# Altium integrated library Vishay Roederstein Electrolytic Radial-Lead Capacitor.IntLib: 1241 symbols (part 19 of 20)
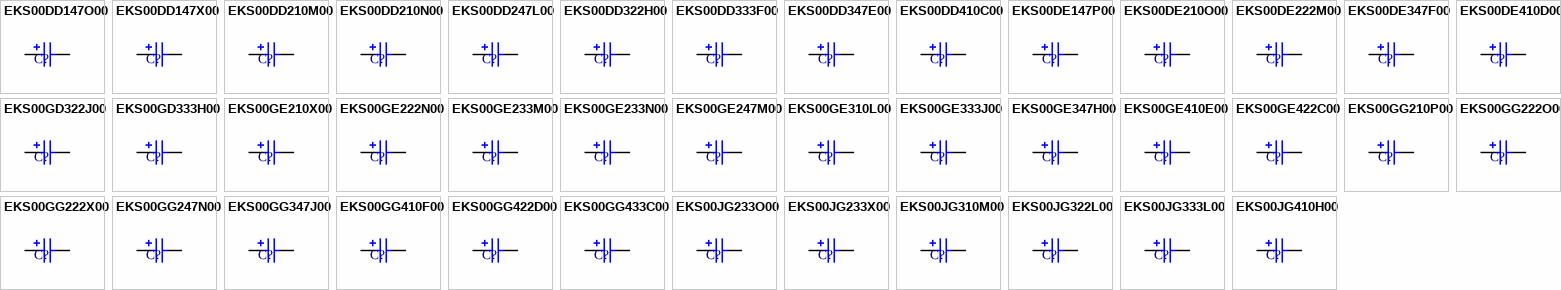
[diagram p49: symbols EKS00DD147O00 to EKS00JG410H00]

## EKS00GE347H00
designator C?
Aluminum Electrolytic Capacitor, Radial Style with Long Leads: 470uF, 50V; Note: Refer to Manufacturer's Data Sheets for other lead formations; DrillSize: Nominal, Rounded To The Nearest 0.1mm; Published: 19-Mar-2004; DatasheetDocument: 30-May-2000; PackageReference: CAPPR5-13X20; Publisher: Altium Limited; ComponentLink1Description: Manufacturer Link; ComponentLink1URL: http://www.vishay.com/; ComponentLink2Description: Datasheet; ComponentLink2URL: http://www.vishay.com/docs/25007/eks.pdf; Value: 470uF
footprint CAPPR5-13X20 (Capacitor, Electrolytic, Radial; Body 13 x 20 mm (Dia.xH typ); Pin Spacing 5 mm (typ))
simulation model CAP (Capacitor)
signal-integrity model EKS00GE347H00
pins: 1, 2
1 alternate drawing of the same symbol

## EKS00GE410E00
designator C?
Aluminum Electrolytic Capacitor, Radial Style with Long Leads: 1000uF, 25V; Note: Refer to Manufacturer's Data Sheets for other lead formations; DrillSize: Nominal, Rounded To The Nearest 0.1mm; Published: 19-Mar-2004; DatasheetDocument: 30-May-2000; PackageReference: CAPPR5-13X20; Publisher: Altium Limited; ComponentLink1Description: Manufacturer Link; ComponentLink1URL: http://www.vishay.com/; ComponentLink2Description: Datasheet; ComponentLink2URL: http://www.vishay.com/docs/25007/eks.pdf; Value: 1000uF
footprint CAPPR5-13X20 (Capacitor, Electrolytic, Radial; Body 13 x 20 mm (Dia.xH typ); Pin Spacing 5 mm (typ))
simulation model CAP (Capacitor)
signal-integrity model EKS00GE410E00
pins: 1, 2
1 alternate drawing of the same symbol

## EKS00GE422C00
designator C?
Aluminum Electrolytic Capacitor, Radial Style with Long Leads: 2200uF, 10V; Note: Refer to Manufacturer's Data Sheets for other lead formations; DrillSize: Nominal, Rounded To The Nearest 0.1mm; Published: 19-Mar-2004; DatasheetDocument: 30-May-2000; PackageReference: CAPPR5-13X20; Publisher: Altium Limited; ComponentLink1Description: Manufacturer Link; ComponentLink1URL: http://www.vishay.com/; ComponentLink2Description: Datasheet; ComponentLink2URL: http://www.vishay.com/docs/25007/eks.pdf; Value: 2200uF
footprint CAPPR5-13X20 (Capacitor, Electrolytic, Radial; Body 13 x 20 mm (Dia.xH typ); Pin Spacing 5 mm (typ))
simulation model CAP (Capacitor)
signal-integrity model EKS00GE422C00
pins: 1, 2
1 alternate drawing of the same symbol

## EKS00GG210P00
designator C?
Aluminum Electrolytic Capacitor, Radial Style with Long Leads: 10uF, 450V; Note: Refer to Manufacturer's Data Sheets for other lead formations; DrillSize: Nominal, Rounded To The Nearest 0.1mm; Published: 19-Mar-2004; DatasheetDocument: 30-May-2000; PackageReference: CAPPR5-13X25; Publisher: Altium Limited; ComponentLink1Description: Manufacturer Link; ComponentLink1URL: http://www.vishay.com/; ComponentLink2Description: Datasheet; ComponentLink2URL: http://www.vishay.com/docs/25007/eks.pdf; Value: 10uF
footprint CAPPR5-13X25 (Capacitor, Electrolytic, Radial; Body 13 x 25 mm (Dia.xH typ); Pin Spacing 5 mm (typ))
simulation model CAP (Capacitor)
signal-integrity model EKS00GG210P00
pins: 1, 2
1 alternate drawing of the same symbol

## EKS00GG222O00
designator C?
Aluminum Electrolytic Capacitor, Radial Style with Long Leads: 22uF, 350V; Note: Refer to Manufacturer's Data Sheets for other lead formations; DrillSize: Nominal, Rounded To The Nearest 0.1mm; Published: 19-Mar-2004; DatasheetDocument: 30-May-2000; PackageReference: CAPPR5-13X25; Publisher: Altium Limited; ComponentLink1Description: Manufacturer Link; ComponentLink1URL: http://www.vishay.com/; ComponentLink2Description: Datasheet; ComponentLink2URL: http://www.vishay.com/docs/25007/eks.pdf; Value: 22uF
footprint CAPPR5-13X25 (Capacitor, Electrolytic, Radial; Body 13 x 25 mm (Dia.xH typ); Pin Spacing 5 mm (typ))
simulation model CAP (Capacitor)
signal-integrity model EKS00GG222O00
pins: 1, 2
1 alternate drawing of the same symbol

## EKS00GG222X00
designator C?
Aluminum Electrolytic Capacitor, Radial Style with Long Leads: 22uF, 400V; Note: Refer to Manufacturer's Data Sheets for other lead formations; DrillSize: Nominal, Rounded To The Nearest 0.1mm; Published: 19-Mar-2004; DatasheetDocument: 30-May-2000; PackageReference: CAPPR5-13X25; Publisher: Altium Limited; ComponentLink1Description: Manufacturer Link; ComponentLink1URL: http://www.vishay.com/; ComponentLink2Description: Datasheet; ComponentLink2URL: http://www.vishay.com/docs/25007/eks.pdf; Value: 22uF
footprint CAPPR5-13X25 (Capacitor, Electrolytic, Radial; Body 13 x 25 mm (Dia.xH typ); Pin Spacing 5 mm (typ))
simulation model CAP (Capacitor)
signal-integrity model EKS00GG222X00
pins: 1, 2
1 alternate drawing of the same symbol

## EKS00GG247N00
designator C?
Aluminum Electrolytic Capacitor, Radial Style with Long Leads: 47uF, 250V; Note: Refer to Manufacturer's Data Sheets for other lead formations; DrillSize: Nominal, Rounded To The Nearest 0.1mm; Published: 19-Mar-2004; DatasheetDocument: 30-May-2000; PackageReference: CAPPR5-13X25; Publisher: Altium Limited; ComponentLink1Description: Manufacturer Link; ComponentLink1URL: http://www.vishay.com/; ComponentLink2Description: Datasheet; ComponentLink2URL: http://www.vishay.com/docs/25007/eks.pdf; Value: 47uF
footprint CAPPR5-13X25 (Capacitor, Electrolytic, Radial; Body 13 x 25 mm (Dia.xH typ); Pin Spacing 5 mm (typ))
simulation model CAP (Capacitor)
signal-integrity model EKS00GG247N00
pins: 1, 2
1 alternate drawing of the same symbol

## EKS00GG347J00
designator C?
Aluminum Electrolytic Capacitor, Radial Style with Long Leads: 470uF, 63V; Note: Refer to Manufacturer's Data Sheets for other lead formations; DrillSize: Nominal, Rounded To The Nearest 0.1mm; Published: 19-Mar-2004; DatasheetDocument: 30-May-2000; PackageReference: CAPPR5-13X25; Publisher: Altium Limited; ComponentLink1Description: Manufacturer Link; ComponentLink1URL: http://www.vishay.com/; ComponentLink2Description: Datasheet; ComponentLink2URL: http://www.vishay.com/docs/25007/eks.pdf; Value: 470uF
footprint CAPPR5-13X25 (Capacitor, Electrolytic, Radial; Body 13 x 25 mm (Dia.xH typ); Pin Spacing 5 mm (typ))
simulation model CAP (Capacitor)
signal-integrity model EKS00GG347J00
pins: 1, 2
1 alternate drawing of the same symbol

## EKS00GG410F00
designator C?
Aluminum Electrolytic Capacitor, Radial Style with Long Leads: 1000uF, 35V; Note: Refer to Manufacturer's Data Sheets for other lead formations; DrillSize: Nominal, Rounded To The Nearest 0.1mm; Published: 19-Mar-2004; DatasheetDocument: 30-May-2000; PackageReference: CAPPR5-13X25; Publisher: Altium Limited; ComponentLink1Description: Manufacturer Link; ComponentLink1URL: http://www.vishay.com/; ComponentLink2Description: Datasheet; ComponentLink2URL: http://www.vishay.com/docs/25007/eks.pdf; Value: 1000uF
footprint CAPPR5-13X25 (Capacitor, Electrolytic, Radial; Body 13 x 25 mm (Dia.xH typ); Pin Spacing 5 mm (typ))
simulation model CAP (Capacitor)
signal-integrity model EKS00GG410F00
pins: 1, 2
1 alternate drawing of the same symbol

## EKS00GG422D00
designator C?
Aluminum Electrolytic Capacitor, Radial Style with Long Leads: 2200uF, 16V; Note: Refer to Manufacturer's Data Sheets for other lead formations; DrillSize: Nominal, Rounded To The Nearest 0.1mm; Published: 19-Mar-2004; DatasheetDocument: 30-May-2000; PackageReference: CAPPR5-13X25; Publisher: Altium Limited; ComponentLink1Description: Manufacturer Link; ComponentLink1URL: http://www.vishay.com/; ComponentLink2Description: Datasheet; ComponentLink2URL: http://www.vishay.com/docs/25007/eks.pdf; Value: 2200uF
footprint CAPPR5-13X25 (Capacitor, Electrolytic, Radial; Body 13 x 25 mm (Dia.xH typ); Pin Spacing 5 mm (typ))
simulation model CAP (Capacitor)
signal-integrity model EKS00GG422D00
pins: 1, 2
1 alternate drawing of the same symbol

## EKS00GG433C00
designator C?
Aluminum Electrolytic Capacitor, Radial Style with Long Leads: 3300uF, 10V; Note: Refer to Manufacturer's Data Sheets for other lead formations; DrillSize: Nominal, Rounded To The Nearest 0.1mm; Published: 19-Mar-2004; DatasheetDocument: 30-May-2000; PackageReference: CAPPR5-13X25; Publisher: Altium Limited; ComponentLink1Description: Manufacturer Link; ComponentLink1URL: http://www.vishay.com/; ComponentLink2Description: Datasheet; ComponentLink2URL: http://www.vishay.com/docs/25007/eks.pdf; Value: 3300uF
footprint CAPPR5-13X25 (Capacitor, Electrolytic, Radial; Body 13 x 25 mm (Dia.xH typ); Pin Spacing 5 mm (typ))
simulation model CAP (Capacitor)
signal-integrity model EKS00GG433C00
pins: 1, 2
1 alternate drawing of the same symbol

## EKS00JG233O00
designator C?
Aluminum Electrolytic Capacitor, Radial Style with Long Leads: 33uF, 350V; Note: Refer to Manufacturer's Data Sheets for other lead formations; DrillSize: Nominal, Rounded To The Nearest 0.1mm; Published: 19-Mar-2004; DatasheetDocument: 30-May-2000; PackageReference: CAPPR7.5-16X25; Publisher: Altium Limited; ComponentLink1Description: Manufacturer Link; ComponentLink1URL: http://www.vishay.com/; ComponentLink2Description: Datasheet; ComponentLink2URL: http://www.vishay.com/docs/25007/eks.pdf; Value: 33uF
footprint CAPPR7.5-16X25 (Capacitor, Electrolytic, Radial; Body 16 x 25 mm (Dia.xH typ); Pin Spacing 7.5 mm (typ))
simulation model CAP (Capacitor)
signal-integrity model EKS00JG233O00
pins: 1, 2
1 alternate drawing of the same symbol

## EKS00JG233X00
designator C?
Aluminum Electrolytic Capacitor, Radial Style with Long Leads: 33uF, 400V; Note: Refer to Manufacturer's Data Sheets for other lead formations; DrillSize: Nominal, Rounded To The Nearest 0.1mm; Published: 19-Mar-2004; DatasheetDocument: 30-May-2000; PackageReference: CAPPR7.5-16X25; Publisher: Altium Limited; ComponentLink1Description: Manufacturer Link; ComponentLink1URL: http://www.vishay.com/; ComponentLink2Description: Datasheet; ComponentLink2URL: http://www.vishay.com/docs/25007/eks.pdf; Value: 33uF
footprint CAPPR7.5-16X25 (Capacitor, Electrolytic, Radial; Body 16 x 25 mm (Dia.xH typ); Pin Spacing 7.5 mm (typ))
simulation model CAP (Capacitor)
signal-integrity model EKS00JG233X00
pins: 1, 2
1 alternate drawing of the same symbol

## EKS00JG310M00
designator C?
Aluminum Electrolytic Capacitor, Radial Style with Long Leads: 100uF, 160V; Note: Refer to Manufacturer's Data Sheets for other lead formations; DrillSize: Nominal, Rounded To The Nearest 0.1mm; Published: 19-Mar-2004; DatasheetDocument: 30-May-2000; PackageReference: CAPPR7.5-16X25; Publisher: Altium Limited; ComponentLink1Description: Manufacturer Link; ComponentLink1URL: http://www.vishay.com/; ComponentLink2Description: Datasheet; ComponentLink2URL: http://www.vishay.com/docs/25007/eks.pdf; Value: 100uF
footprint CAPPR7.5-16X25 (Capacitor, Electrolytic, Radial; Body 16 x 25 mm (Dia.xH typ); Pin Spacing 7.5 mm (typ))
simulation model CAP (Capacitor)
signal-integrity model EKS00JG310M00
pins: 1, 2
1 alternate drawing of the same symbol

## EKS00JG322L00
designator C?
Aluminum Electrolytic Capacitor, Radial Style with Long Leads: 220uF, 100V; Note: Refer to Manufacturer's Data Sheets for other lead formations; DrillSize: Nominal, Rounded To The Nearest 0.1mm; Published: 19-Mar-2004; DatasheetDocument: 30-May-2000; PackageReference: CAPPR7.5-16X25; Publisher: Altium Limited; ComponentLink1Description: Manufacturer Link; ComponentLink1URL: http://www.vishay.com/; ComponentLink2Description: Datasheet; ComponentLink2URL: http://www.vishay.com/docs/25007/eks.pdf; Value: 220uF
footprint CAPPR7.5-16X25 (Capacitor, Electrolytic, Radial; Body 16 x 25 mm (Dia.xH typ); Pin Spacing 7.5 mm (typ))
simulation model CAP (Capacitor)
signal-integrity model EKS00JG322L00
pins: 1, 2
1 alternate drawing of the same symbol

## EKS00JG333L00
designator C?
Aluminum Electrolytic Capacitor, Radial Style with Long Leads: 330uF, 100V; Note: Refer to Manufacturer's Data Sheets for other lead formations; DrillSize: Nominal, Rounded To The Nearest 0.1mm; Published: 19-Mar-2004; DatasheetDocument: 30-May-2000; PackageReference: CAPPR7.5-16X25; Publisher: Altium Limited; ComponentLink1Description: Manufacturer Link; ComponentLink1URL: http://www.vishay.com/; ComponentLink2Description: Datasheet; ComponentLink2URL: http://www.vishay.com/docs/25007/eks.pdf; Value: 330uF
footprint CAPPR7.5-16X25 (Capacitor, Electrolytic, Radial; Body 16 x 25 mm (Dia.xH typ); Pin Spacing 7.5 mm (typ))
simulation model CAP (Capacitor)
signal-integrity model EKS00JG333L00
pins: 1, 2
1 alternate drawing of the same symbol

## EKS00JG410H00
designator C?
Aluminum Electrolytic Capacitor, Radial Style with Long Leads: 1000uF, 50V; Note: Refer to Manufacturer's Data Sheets for other lead formations; DrillSize: Nominal, Rounded To The Nearest 0.1mm; Published: 19-Mar-2004; DatasheetDocument: 30-May-2000; PackageReference: CAPPR7.5-16X25; Publisher: Altium Limited; ComponentLink1Description: Manufacturer Link; ComponentLink1URL: http://www.vishay.com/; ComponentLink2Description: Datasheet; ComponentLink2URL: http://www.vishay.com/docs/25007/eks.pdf; Value: 1000uF
footprint CAPPR7.5-16X25 (Capacitor, Electrolytic, Radial; Body 16 x 25 mm (Dia.xH typ); Pin Spacing 7.5 mm (typ))
simulation model CAP (Capacitor)
signal-integrity model EKS00JG410H00
pins: 1, 2
1 alternate drawing of the same symbol

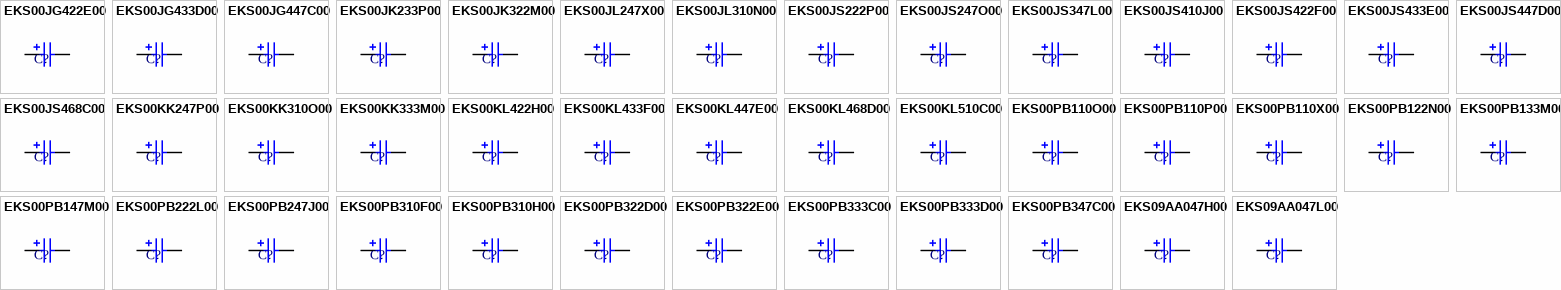
[diagram p29: symbols EKS00JG422E00 to EKS09AA047L00]

## EKS00JG422E00
designator C?
Aluminum Electrolytic Capacitor, Radial Style with Long Leads: 2200uF, 25V; Note: Refer to Manufacturer's Data Sheets for other lead formations; DrillSize: Nominal, Rounded To The Nearest 0.1mm; Published: 19-Mar-2004; DatasheetDocument: 30-May-2000; PackageReference: CAPPR7.5-16X25; Publisher: Altium Limited; ComponentLink1Description: Manufacturer Link; ComponentLink1URL: http://www.vishay.com/; ComponentLink2Description: Datasheet; ComponentLink2URL: http://www.vishay.com/docs/25007/eks.pdf; Value: 2200uF
footprint CAPPR7.5-16X25 (Capacitor, Electrolytic, Radial; Body 16 x 25 mm (Dia.xH typ); Pin Spacing 7.5 mm (typ))
simulation model CAP (Capacitor)
signal-integrity model EKS00JG422E00
pins: 1, 2
1 alternate drawing of the same symbol

## EKS00JG433D00
designator C?
Aluminum Electrolytic Capacitor, Radial Style with Long Leads: 3300uF, 16V; Note: Refer to Manufacturer's Data Sheets for other lead formations; DrillSize: Nominal, Rounded To The Nearest 0.1mm; Published: 19-Mar-2004; DatasheetDocument: 30-May-2000; PackageReference: CAPPR7.5-16X25; Publisher: Altium Limited; ComponentLink1Description: Manufacturer Link; ComponentLink1URL: http://www.vishay.com/; ComponentLink2Description: Datasheet; ComponentLink2URL: http://www.vishay.com/docs/25007/eks.pdf; Value: 3300uF
footprint CAPPR7.5-16X25 (Capacitor, Electrolytic, Radial; Body 16 x 25 mm (Dia.xH typ); Pin Spacing 7.5 mm (typ))
simulation model CAP (Capacitor)
signal-integrity model EKS00JG433D00
pins: 1, 2
1 alternate drawing of the same symbol

## EKS00JG447C00
designator C?
Aluminum Electrolytic Capacitor, Radial Style with Long Leads: 4700uF, 10V; Note: Refer to Manufacturer's Data Sheets for other lead formations; DrillSize: Nominal, Rounded To The Nearest 0.1mm; Published: 19-Mar-2004; DatasheetDocument: 30-May-2000; PackageReference: CAPPR7.5-16X25; Publisher: Altium Limited; ComponentLink1Description: Manufacturer Link; ComponentLink1URL: http://www.vishay.com/; ComponentLink2Description: Datasheet; ComponentLink2URL: http://www.vishay.com/docs/25007/eks.pdf; Value: 4700uF
footprint CAPPR7.5-16X25 (Capacitor, Electrolytic, Radial; Body 16 x 25 mm (Dia.xH typ); Pin Spacing 7.5 mm (typ))
simulation model CAP (Capacitor)
signal-integrity model EKS00JG447C00
pins: 1, 2
1 alternate drawing of the same symbol

## EKS00JK233P00
designator C?
Aluminum Electrolytic Capacitor, Radial Style with Long Leads: 33uF, 450V; Note: Refer to Manufacturer's Data Sheets for other lead formations; DrillSize: Nominal, Rounded To The Nearest 0.1mm; Published: 19-Mar-2004; DatasheetDocument: 30-May-2000; PackageReference: CAPPR7.5-16X40; Publisher: Altium Limited; ComponentLink1Description: Manufacturer Link; ComponentLink1URL: http://www.vishay.com/; ComponentLink2Description: Datasheet; ComponentLink2URL: http://www.vishay.com/docs/25007/eks.pdf; Value: 33uF
footprint CAPPR7.5-16X40 (Capacitor, Electrolytic, Radial; Body 16 x 40 mm (Dia.xH typ); Pin Spacing 7.5 mm (typ))
simulation model CAP (Capacitor)
signal-integrity model EKS00JK233P00
pins: 1, 2
1 alternate drawing of the same symbol

## EKS00JK322M00
designator C?
Aluminum Electrolytic Capacitor, Radial Style with Long Leads: 220uF, 160V; Note: Refer to Manufacturer's Data Sheets for other lead formations; DrillSize: Nominal, Rounded To The Nearest 0.1mm; Published: 19-Mar-2004; DatasheetDocument: 30-May-2000; PackageReference: CAPPR7.5-16X40; Publisher: Altium Limited; ComponentLink1Description: Manufacturer Link; ComponentLink1URL: http://www.vishay.com/; ComponentLink2Description: Datasheet; ComponentLink2URL: http://www.vishay.com/docs/25007/eks.pdf; Value: 220uF
footprint CAPPR7.5-16X40 (Capacitor, Electrolytic, Radial; Body 16 x 40 mm (Dia.xH typ); Pin Spacing 7.5 mm (typ))
simulation model CAP (Capacitor)
signal-integrity model EKS00JK322M00
pins: 1, 2
1 alternate drawing of the same symbol

## EKS00JL247X00
designator C?
Aluminum Electrolytic Capacitor, Radial Style with Long Leads: 47uF, 400V; Note: Refer to Manufacturer's Data Sheets for other lead formations; DrillSize: Nominal, Rounded To The Nearest 0.1mm; Published: 19-Mar-2004; DatasheetDocument: 30-May-2000; PackageReference: CAPPR7.5-16X35.5; Publisher: Altium Limited; ComponentLink1Description: Manufacturer Link; ComponentLink1URL: http://www.vishay.com/; ComponentLink2Description: Datasheet; ComponentLink2URL: http://www.vishay.com/docs/25007/eks.pdf; Value: 47uF
footprint CAPPR7.5-16X35.5 (Capacitor, Electrolytic, Radial; Body 16 x 35.5 mm (Dia.xH typ); Pin Spacing 7.5 mm (typ))
simulation model CAP (Capacitor)
signal-integrity model EKS00JL247X00
pins: 1, 2
1 alternate drawing of the same symbol

## EKS00JL310N00
designator C?
Aluminum Electrolytic Capacitor, Radial Style with Long Leads: 100uF, 250V; Note: Refer to Manufacturer's Data Sheets for other lead formations; DrillSize: Nominal, Rounded To The Nearest 0.1mm; Published: 19-Mar-2004; DatasheetDocument: 30-May-2000; PackageReference: CAPPR7.5-16X35.5; Publisher: Altium Limited; ComponentLink1Description: Manufacturer Link; ComponentLink1URL: http://www.vishay.com/; ComponentLink2Description: Datasheet; ComponentLink2URL: http://www.vishay.com/docs/25007/eks.pdf; Value: 100uF
footprint CAPPR7.5-16X35.5 (Capacitor, Electrolytic, Radial; Body 16 x 35.5 mm (Dia.xH typ); Pin Spacing 7.5 mm (typ))
simulation model CAP (Capacitor)
signal-integrity model EKS00JL310N00
pins: 1, 2
1 alternate drawing of the same symbol

## EKS00JS222P00
designator C?
Aluminum Electrolytic Capacitor, Radial Style with Long Leads: 22uF, 450V; Note: Refer to Manufacturer's Data Sheets for other lead formations; DrillSize: Nominal, Rounded To The Nearest 0.1mm; Published: 19-Mar-2004; DatasheetDocument: 30-May-2000; PackageReference: CAPPR7.5-16X31.5; Publisher: Altium Limited; ComponentLink1Description: Manufacturer Link; ComponentLink1URL: http://www.vishay.com/; ComponentLink2Description: Datasheet; ComponentLink2URL: http://www.vishay.com/docs/25007/eks.pdf; Value: 22uF
footprint CAPPR7.5-16X31.5 (Capacitor, Electrolytic, Radial; Body 16 x 31.5 mm (Dia.xH typ); Pin Spacing 7.5 mm (typ))
simulation model CAP (Capacitor)
signal-integrity model EKS00JS222P00
pins: 1, 2
1 alternate drawing of the same symbol

## EKS00JS247O00
designator C?
Aluminum Electrolytic Capacitor, Radial Style with Long Leads: 47uF, 350V; Note: Refer to Manufacturer's Data Sheets for other lead formations; DrillSize: Nominal, Rounded To The Nearest 0.1mm; Published: 19-Mar-2004; DatasheetDocument: 30-May-2000; PackageReference: CAPPR7.5-16X31.5; Publisher: Altium Limited; ComponentLink1Description: Manufacturer Link; ComponentLink1URL: http://www.vishay.com/; ComponentLink2Description: Datasheet; ComponentLink2URL: http://www.vishay.com/docs/25007/eks.pdf; Value: 47uF
footprint CAPPR7.5-16X31.5 (Capacitor, Electrolytic, Radial; Body 16 x 31.5 mm (Dia.xH typ); Pin Spacing 7.5 mm (typ))
simulation model CAP (Capacitor)
signal-integrity model EKS00JS247O00
pins: 1, 2
1 alternate drawing of the same symbol

## EKS00JS347L00
designator C?
Aluminum Electrolytic Capacitor, Radial Style with Long Leads: 470uF, 100V; Note: Refer to Manufacturer's Data Sheets for other lead formations; DrillSize: Nominal, Rounded To The Nearest 0.1mm; Published: 19-Mar-2004; DatasheetDocument: 30-May-2000; PackageReference: CAPPR7.5-16X31.5; Publisher: Altium Limited; ComponentLink1Description: Manufacturer Link; ComponentLink1URL: http://www.vishay.com/; ComponentLink2Description: Datasheet; ComponentLink2URL: http://www.vishay.com/docs/25007/eks.pdf; Value: 470uF
footprint CAPPR7.5-16X31.5 (Capacitor, Electrolytic, Radial; Body 16 x 31.5 mm (Dia.xH typ); Pin Spacing 7.5 mm (typ))
simulation model CAP (Capacitor)
signal-integrity model EKS00JS347L00
pins: 1, 2
1 alternate drawing of the same symbol

## EKS00JS410J00
designator C?
Aluminum Electrolytic Capacitor, Radial Style with Long Leads: 1000uF, 63V; Note: Refer to Manufacturer's Data Sheets for other lead formations; DrillSize: Nominal, Rounded To The Nearest 0.1mm; Published: 19-Mar-2004; DatasheetDocument: 30-May-2000; PackageReference: CAPPR7.5-16X31.5; Publisher: Altium Limited; ComponentLink1Description: Manufacturer Link; ComponentLink1URL: http://www.vishay.com/; ComponentLink2Description: Datasheet; ComponentLink2URL: http://www.vishay.com/docs/25007/eks.pdf; Value: 1000uF
footprint CAPPR7.5-16X31.5 (Capacitor, Electrolytic, Radial; Body 16 x 31.5 mm (Dia.xH typ); Pin Spacing 7.5 mm (typ))
simulation model CAP (Capacitor)
signal-integrity model EKS00JS410J00
pins: 1, 2
1 alternate drawing of the same symbol

## EKS00JS422F00
designator C?
Aluminum Electrolytic Capacitor, Radial Style with Long Leads: 2200uF, 35V; Note: Refer to Manufacturer's Data Sheets for other lead formations; DrillSize: Nominal, Rounded To The Nearest 0.1mm; Published: 19-Mar-2004; DatasheetDocument: 30-May-2000; PackageReference: CAPPR7.5-16X31.5; Publisher: Altium Limited; ComponentLink1Description: Manufacturer Link; ComponentLink1URL: http://www.vishay.com/; ComponentLink2Description: Datasheet; ComponentLink2URL: http://www.vishay.com/docs/25007/eks.pdf; Value: 2200uF
footprint CAPPR7.5-16X31.5 (Capacitor, Electrolytic, Radial; Body 16 x 31.5 mm (Dia.xH typ); Pin Spacing 7.5 mm (typ))
simulation model CAP (Capacitor)
signal-integrity model EKS00JS422F00
pins: 1, 2
1 alternate drawing of the same symbol

## EKS00JS433E00
designator C?
Aluminum Electrolytic Capacitor, Radial Style with Long Leads: 3300uF, 25V; Note: Refer to Manufacturer's Data Sheets for other lead formations; DrillSize: Nominal, Rounded To The Nearest 0.1mm; Published: 19-Mar-2004; DatasheetDocument: 30-May-2000; PackageReference: CAPPR7.5-16X31.5; Publisher: Altium Limited; ComponentLink1Description: Manufacturer Link; ComponentLink1URL: http://www.vishay.com/; ComponentLink2Description: Datasheet; ComponentLink2URL: http://www.vishay.com/docs/25007/eks.pdf; Value: 3300uF
footprint CAPPR7.5-16X31.5 (Capacitor, Electrolytic, Radial; Body 16 x 31.5 mm (Dia.xH typ); Pin Spacing 7.5 mm (typ))
simulation model CAP (Capacitor)
signal-integrity model EKS00JS433E00
pins: 1, 2
1 alternate drawing of the same symbol

## EKS00JS447D00
designator C?
Aluminum Electrolytic Capacitor, Radial Style with Long Leads: 4700uF, 16V; Note: Refer to Manufacturer's Data Sheets for other lead formations; DrillSize: Nominal, Rounded To The Nearest 0.1mm; Published: 19-Mar-2004; DatasheetDocument: 30-May-2000; PackageReference: CAPPR7.5-16X31.5; Publisher: Altium Limited; ComponentLink1Description: Manufacturer Link; ComponentLink1URL: http://www.vishay.com/; ComponentLink2Description: Datasheet; ComponentLink2URL: http://www.vishay.com/docs/25007/eks.pdf; Value: 4700uF
footprint CAPPR7.5-16X31.5 (Capacitor, Electrolytic, Radial; Body 16 x 31.5 mm (Dia.xH typ); Pin Spacing 7.5 mm (typ))
simulation model CAP (Capacitor)
signal-integrity model EKS00JS447D00
pins: 1, 2
1 alternate drawing of the same symbol

## EKS00JS468C00
designator C?
Aluminum Electrolytic Capacitor, Radial Style with Long Leads: 6800uF, 10V; Note: Refer to Manufacturer's Data Sheets for other lead formations; DrillSize: Nominal, Rounded To The Nearest 0.1mm; Published: 19-Mar-2004; DatasheetDocument: 30-May-2000; PackageReference: CAPPR7.5-16X31.5; Publisher: Altium Limited; ComponentLink1Description: Manufacturer Link; ComponentLink1URL: http://www.vishay.com/; ComponentLink2Description: Datasheet; ComponentLink2URL: http://www.vishay.com/docs/25007/eks.pdf; Value: 6800uF
footprint CAPPR7.5-16X31.5 (Capacitor, Electrolytic, Radial; Body 16 x 31.5 mm (Dia.xH typ); Pin Spacing 7.5 mm (typ))
simulation model CAP (Capacitor)
signal-integrity model EKS00JS468C00
pins: 1, 2
1 alternate drawing of the same symbol

## EKS00KK247P00
designator C?
Aluminum Electrolytic Capacitor, Radial Style with Long Leads: 47uF, 450V; Note: Refer to Manufacturer's Data Sheets for other lead formations; DrillSize: Nominal, Rounded To The Nearest 0.1mm; Published: 19-Mar-2004; DatasheetDocument: 30-May-2000; PackageReference: CAPPR7.5-18X40; Publisher: Altium Limited; ComponentLink1Description: Manufacturer Link; ComponentLink1URL: http://www.vishay.com/; ComponentLink2Description: Datasheet; ComponentLink2URL: http://www.vishay.com/docs/25007/eks.pdf; Value: 47uF
footprint CAPPR7.5-18X40 (Capacitor, Electrolytic, Radial; Body 18 x 40 mm (Dia.xH typ); Pin Spacing 7.5 mm (typ))
simulation model CAP (Capacitor)
signal-integrity model EKS00KK247P00
pins: 1, 2
1 alternate drawing of the same symbol

## EKS00KK310O00
designator C?
Aluminum Electrolytic Capacitor, Radial Style with Long Leads: 100uF, 350V; Note: Refer to Manufacturer's Data Sheets for other lead formations; DrillSize: Nominal, Rounded To The Nearest 0.1mm; Published: 19-Mar-2004; DatasheetDocument: 30-May-2000; PackageReference: CAPPR7.5-18X40; Publisher: Altium Limited; ComponentLink1Description: Manufacturer Link; ComponentLink1URL: http://www.vishay.com/; ComponentLink2Description: Datasheet; ComponentLink2URL: http://www.vishay.com/docs/25007/eks.pdf; Value: 100uF
footprint CAPPR7.5-18X40 (Capacitor, Electrolytic, Radial; Body 18 x 40 mm (Dia.xH typ); Pin Spacing 7.5 mm (typ))
simulation model CAP (Capacitor)
signal-integrity model EKS00KK310O00
pins: 1, 2
1 alternate drawing of the same symbol

## EKS00KK333M00
designator C?
Aluminum Electrolytic Capacitor, Radial Style with Long Leads: 330uF, 160V; Note: Refer to Manufacturer's Data Sheets for other lead formations; DrillSize: Nominal, Rounded To The Nearest 0.1mm; Published: 19-Mar-2004; DatasheetDocument: 30-May-2000; PackageReference: CAPPR7.5-18X40; Publisher: Altium Limited; ComponentLink1Description: Manufacturer Link; ComponentLink1URL: http://www.vishay.com/; ComponentLink2Description: Datasheet; ComponentLink2URL: http://www.vishay.com/docs/25007/eks.pdf; Value: 330uF
footprint CAPPR7.5-18X40 (Capacitor, Electrolytic, Radial; Body 18 x 40 mm (Dia.xH typ); Pin Spacing 7.5 mm (typ))
simulation model CAP (Capacitor)
signal-integrity model EKS00KK333M00
pins: 1, 2
1 alternate drawing of the same symbol

## EKS00KL422H00
designator C?
Aluminum Electrolytic Capacitor, Radial Style with Long Leads: 2200uF, 50V; Note: Refer to Manufacturer's Data Sheets for other lead formations; DrillSize: Nominal, Rounded To The Nearest 0.1mm; Published: 19-Mar-2004; DatasheetDocument: 30-May-2000; PackageReference: CAPPR7.5-18X35.5; Publisher: Altium Limited; ComponentLink1Description: Manufacturer Link; ComponentLink1URL: http://www.vishay.com/; ComponentLink2Description: Datasheet; ComponentLink2URL: http://www.vishay.com/docs/25007/eks.pdf; Value: 2200uF
footprint CAPPR7.5-18X35.5 (Capacitor, Electrolytic, Radial; Body 18 x 35.5 mm (Dia.xH typ); Pin Spacing 7.5 mm (typ))
simulation model CAP (Capacitor)
signal-integrity model EKS00KL422H00
pins: 1, 2
1 alternate drawing of the same symbol

## EKS00KL433F00
designator C?
Aluminum Electrolytic Capacitor, Radial Style with Long Leads: 3300uF, 35V; Note: Refer to Manufacturer's Data Sheets for other lead formations; DrillSize: Nominal, Rounded To The Nearest 0.1mm; Published: 19-Mar-2004; DatasheetDocument: 30-May-2000; PackageReference: CAPPR7.5-18X35.5; Publisher: Altium Limited; ComponentLink1Description: Manufacturer Link; ComponentLink1URL: http://www.vishay.com/; ComponentLink2Description: Datasheet; ComponentLink2URL: http://www.vishay.com/docs/25007/eks.pdf; Value: 3300uF
footprint CAPPR7.5-18X35.5 (Capacitor, Electrolytic, Radial; Body 18 x 35.5 mm (Dia.xH typ); Pin Spacing 7.5 mm (typ))
simulation model CAP (Capacitor)
signal-integrity model EKS00KL433F00
pins: 1, 2
1 alternate drawing of the same symbol

## EKS00KL447E00
designator C?
Aluminum Electrolytic Capacitor, Radial Style with Long Leads: 4700uF, 25V; Note: Refer to Manufacturer's Data Sheets for other lead formations; DrillSize: Nominal, Rounded To The Nearest 0.1mm; Published: 19-Mar-2004; DatasheetDocument: 30-May-2000; PackageReference: CAPPR7.5-18X35.5; Publisher: Altium Limited; ComponentLink1Description: Manufacturer Link; ComponentLink1URL: http://www.vishay.com/; ComponentLink2Description: Datasheet; ComponentLink2URL: http://www.vishay.com/docs/25007/eks.pdf; Value: 4700uF
footprint CAPPR7.5-18X35.5 (Capacitor, Electrolytic, Radial; Body 18 x 35.5 mm (Dia.xH typ); Pin Spacing 7.5 mm (typ))
simulation model CAP (Capacitor)
signal-integrity model EKS00KL447E00
pins: 1, 2
1 alternate drawing of the same symbol

## EKS00KL468D00
designator C?
Aluminum Electrolytic Capacitor, Radial Style with Long Leads: 6800uF, 16V; Note: Refer to Manufacturer's Data Sheets for other lead formations; DrillSize: Nominal, Rounded To The Nearest 0.1mm; Published: 19-Mar-2004; DatasheetDocument: 30-May-2000; PackageReference: CAPPR7.5-16X40; Publisher: Altium Limited; ComponentLink1Description: Manufacturer Link; ComponentLink1URL: http://www.vishay.com/; ComponentLink2Description: Datasheet; ComponentLink2URL: http://www.vishay.com/docs/25007/eks.pdf; Value: 6800uF
footprint CAPPR7.5-16X40 (Capacitor, Electrolytic, Radial; Body 16 x 40 mm (Dia.xH typ); Pin Spacing 7.5 mm (typ))
simulation model CAP (Capacitor)
signal-integrity model EKS00KL468D00
pins: 1, 2
1 alternate drawing of the same symbol

## EKS00KL510C00
designator C?
Aluminum Electrolytic Capacitor, Radial Style with Long Leads: 10000uF, 10V; Note: Refer to Manufacturer's Data Sheets for other lead formations; DrillSize: Nominal, Rounded To The Nearest 0.1mm; Published: 19-Mar-2004; DatasheetDocument: 30-May-2000; PackageReference: CAPPR7.5-18X35.5; Publisher: Altium Limited; ComponentLink1Description: Manufacturer Link; ComponentLink1URL: http://www.vishay.com/; ComponentLink2Description: Datasheet; ComponentLink2URL: http://www.vishay.com/docs/25007/eks.pdf; Value: 10000uF
footprint CAPPR7.5-18X35.5 (Capacitor, Electrolytic, Radial; Body 18 x 35.5 mm (Dia.xH typ); Pin Spacing 7.5 mm (typ))
simulation model CAP (Capacitor)
signal-integrity model EKS00KL510C00
pins: 1, 2
1 alternate drawing of the same symbol

## EKS00PB110O00
designator C?
Aluminum Electrolytic Capacitor, Radial Style with Long Leads: 1uF, 350V; Note: Refer to Manufacturer's Data Sheets for other lead formations; DrillSize: Nominal, Rounded To The Nearest 0.1mm; Published: 19-Mar-2004; DatasheetDocument: 30-May-2000; PackageReference: CAPPR3.5-8X11.5; Publisher: Altium Limited; ComponentLink1Description: Manufacturer Link; ComponentLink1URL: http://www.vishay.com/; ComponentLink2Description: Datasheet; ComponentLink2URL: http://www.vishay.com/docs/25007/eks.pdf; Value: 1uF
footprint CAPPR3.5-8X11.5 (Capacitor, Electrolytic, Radial; Body 8 x 11.5 mm (Dia.xH typ); Pin Spacing 3.5 mm (typ))
simulation model CAP (Capacitor)
signal-integrity model EKS00PB110O00
pins: 1, 2
1 alternate drawing of the same symbol

## EKS00PB110P00
designator C?
Aluminum Electrolytic Capacitor, Radial Style with Long Leads: 1uF, 450V; Note: Refer to Manufacturer's Data Sheets for other lead formations; DrillSize: Nominal, Rounded To The Nearest 0.1mm; Published: 19-Mar-2004; DatasheetDocument: 30-May-2000; PackageReference: CAPPR3.5-8X11.5; Publisher: Altium Limited; ComponentLink1Description: Manufacturer Link; ComponentLink1URL: http://www.vishay.com/; ComponentLink2Description: Datasheet; ComponentLink2URL: http://www.vishay.com/docs/25007/eks.pdf; Value: 1uF
footprint CAPPR3.5-8X11.5 (Capacitor, Electrolytic, Radial; Body 8 x 11.5 mm (Dia.xH typ); Pin Spacing 3.5 mm (typ))
simulation model CAP (Capacitor)
signal-integrity model EKS00PB110P00
pins: 1, 2
1 alternate drawing of the same symbol

## EKS00PB110X00
designator C?
Aluminum Electrolytic Capacitor, Radial Style with Long Leads: 1uF, 400V; Note: Refer to Manufacturer's Data Sheets for other lead formations; DrillSize: Nominal, Rounded To The Nearest 0.1mm; Published: 19-Mar-2004; DatasheetDocument: 30-May-2000; PackageReference: CAPPR3.5-8X11.5; Publisher: Altium Limited; ComponentLink1Description: Manufacturer Link; ComponentLink1URL: http://www.vishay.com/; ComponentLink2Description: Datasheet; ComponentLink2URL: http://www.vishay.com/docs/25007/eks.pdf; Value: 1uF
footprint CAPPR3.5-8X11.5 (Capacitor, Electrolytic, Radial; Body 8 x 11.5 mm (Dia.xH typ); Pin Spacing 3.5 mm (typ))
simulation model CAP (Capacitor)
signal-integrity model EKS00PB110X00
pins: 1, 2
1 alternate drawing of the same symbol

## EKS00PB122N00
designator C?
Aluminum Electrolytic Capacitor, Radial Style with Long Leads: 2.2uF, 250V; Note: Refer to Manufacturer's Data Sheets for other lead formations; DrillSize: Nominal, Rounded To The Nearest 0.1mm; Published: 19-Mar-2004; DatasheetDocument: 30-May-2000; PackageReference: CAPPR3.5-8X11.5; Publisher: Altium Limited; ComponentLink1Description: Manufacturer Link; ComponentLink1URL: http://www.vishay.com/; ComponentLink2Description: Datasheet; ComponentLink2URL: http://www.vishay.com/docs/25007/eks.pdf; Value: 2.2uF
footprint CAPPR3.5-8X11.5 (Capacitor, Electrolytic, Radial; Body 8 x 11.5 mm (Dia.xH typ); Pin Spacing 3.5 mm (typ))
simulation model CAP (Capacitor)
signal-integrity model EKS00PB122N00
pins: 1, 2
1 alternate drawing of the same symbol

## EKS00PB133M00
designator C?
Aluminum Electrolytic Capacitor, Radial Style with Long Leads: 3.3uF, 160V; Note: Refer to Manufacturer's Data Sheets for other lead formations; DrillSize: Nominal, Rounded To The Nearest 0.1mm; Published: 19-Mar-2004; DatasheetDocument: 30-May-2000; PackageReference: CAPPR3.5-8X11.5; Publisher: Altium Limited; ComponentLink1Description: Manufacturer Link; ComponentLink1URL: http://www.vishay.com/; ComponentLink2Description: Datasheet; ComponentLink2URL: http://www.vishay.com/docs/25007/eks.pdf; Value: 3.3uF
footprint CAPPR3.5-8X11.5 (Capacitor, Electrolytic, Radial; Body 8 x 11.5 mm (Dia.xH typ); Pin Spacing 3.5 mm (typ))
simulation model CAP (Capacitor)
signal-integrity model EKS00PB133M00
pins: 1, 2
1 alternate drawing of the same symbol

## EKS00PB147M00
designator C?
Aluminum Electrolytic Capacitor, Radial Style with Long Leads: 4.7uF, 160V; Note: Refer to Manufacturer's Data Sheets for other lead formations; DrillSize: Nominal, Rounded To The Nearest 0.1mm; Published: 19-Mar-2004; DatasheetDocument: 30-May-2000; PackageReference: CAPPR3.5-8X11.5; Publisher: Altium Limited; ComponentLink1Description: Manufacturer Link; ComponentLink1URL: http://www.vishay.com/; ComponentLink2Description: Datasheet; ComponentLink2URL: http://www.vishay.com/docs/25007/eks.pdf; Value: 4.7uF
footprint CAPPR3.5-8X11.5 (Capacitor, Electrolytic, Radial; Body 8 x 11.5 mm (Dia.xH typ); Pin Spacing 3.5 mm (typ))
simulation model CAP (Capacitor)
signal-integrity model EKS00PB147M00
pins: 1, 2
1 alternate drawing of the same symbol

## EKS00PB222L00
designator C?
Aluminum Electrolytic Capacitor, Radial Style with Long Leads: 22uF, 100V; Note: Refer to Manufacturer's Data Sheets for other lead formations; DrillSize: Nominal, Rounded To The Nearest 0.1mm; Published: 19-Mar-2004; DatasheetDocument: 30-May-2000; PackageReference: CAPPR3.5-8X11.5; Publisher: Altium Limited; ComponentLink1Description: Manufacturer Link; ComponentLink1URL: http://www.vishay.com/; ComponentLink2Description: Datasheet; ComponentLink2URL: http://www.vishay.com/docs/25007/eks.pdf; Value: 22uF
footprint CAPPR3.5-8X11.5 (Capacitor, Electrolytic, Radial; Body 8 x 11.5 mm (Dia.xH typ); Pin Spacing 3.5 mm (typ))
simulation model CAP (Capacitor)
signal-integrity model EKS00PB222L00
pins: 1, 2
1 alternate drawing of the same symbol

## EKS00PB247J00
designator C?
Aluminum Electrolytic Capacitor, Radial Style with Long Leads: 47uF, 63V; Note: Refer to Manufacturer's Data Sheets for other lead formations; DrillSize: Nominal, Rounded To The Nearest 0.1mm; Published: 19-Mar-2004; DatasheetDocument: 30-May-2000; PackageReference: CAPPR3.5-8X11.5; Publisher: Altium Limited; ComponentLink1Description: Manufacturer Link; ComponentLink1URL: http://www.vishay.com/; ComponentLink2Description: Datasheet; ComponentLink2URL: http://www.vishay.com/docs/25007/eks.pdf; Value: 47uF
footprint CAPPR3.5-8X11.5 (Capacitor, Electrolytic, Radial; Body 8 x 11.5 mm (Dia.xH typ); Pin Spacing 3.5 mm (typ))
simulation model CAP (Capacitor)
signal-integrity model EKS00PB247J00
pins: 1, 2
1 alternate drawing of the same symbol

## EKS00PB310F00
designator C?
Aluminum Electrolytic Capacitor, Radial Style with Long Leads: 100uF, 35V; Note: Refer to Manufacturer's Data Sheets for other lead formations; DrillSize: Nominal, Rounded To The Nearest 0.1mm; Published: 19-Mar-2004; DatasheetDocument: 30-May-2000; PackageReference: CAPPR3.5-8X11.5; Publisher: Altium Limited; ComponentLink1Description: Manufacturer Link; ComponentLink1URL: http://www.vishay.com/; ComponentLink2Description: Datasheet; ComponentLink2URL: http://www.vishay.com/docs/25007/eks.pdf; Value: 100uF
footprint CAPPR3.5-8X11.5 (Capacitor, Electrolytic, Radial; Body 8 x 11.5 mm (Dia.xH typ); Pin Spacing 3.5 mm (typ))
simulation model CAP (Capacitor)
signal-integrity model EKS00PB310F00
pins: 1, 2
1 alternate drawing of the same symbol

## EKS00PB310H00
designator C?
Aluminum Electrolytic Capacitor, Radial Style with Long Leads: 100uF, 50V; Note: Refer to Manufacturer's Data Sheets for other lead formations; DrillSize: Nominal, Rounded To The Nearest 0.1mm; Published: 19-Mar-2004; DatasheetDocument: 30-May-2000; PackageReference: CAPPR3.5-8X11.5; Publisher: Altium Limited; ComponentLink1Description: Manufacturer Link; ComponentLink1URL: http://www.vishay.com/; ComponentLink2Description: Datasheet; ComponentLink2URL: http://www.vishay.com/docs/25007/eks.pdf; Value: 100uF
footprint CAPPR3.5-8X11.5 (Capacitor, Electrolytic, Radial; Body 8 x 11.5 mm (Dia.xH typ); Pin Spacing 3.5 mm (typ))
simulation model CAP (Capacitor)
signal-integrity model EKS00PB310H00
pins: 1, 2
1 alternate drawing of the same symbol

## EKS00PB322D00
designator C?
Aluminum Electrolytic Capacitor, Radial Style with Long Leads: 220uF, 16V; Note: Refer to Manufacturer's Data Sheets for other lead formations; DrillSize: Nominal, Rounded To The Nearest 0.1mm; Published: 19-Mar-2004; DatasheetDocument: 30-May-2000; PackageReference: CAPPR3.5-8X11.5; Publisher: Altium Limited; ComponentLink1Description: Manufacturer Link; ComponentLink1URL: http://www.vishay.com/; ComponentLink2Description: Datasheet; ComponentLink2URL: http://www.vishay.com/docs/25007/eks.pdf; Value: 220uF
footprint CAPPR3.5-8X11.5 (Capacitor, Electrolytic, Radial; Body 8 x 11.5 mm (Dia.xH typ); Pin Spacing 3.5 mm (typ))
simulation model CAP (Capacitor)
signal-integrity model EKS00PB322D00
pins: 1, 2
1 alternate drawing of the same symbol

## EKS00PB322E00
designator C?
Aluminum Electrolytic Capacitor, Radial Style with Long Leads: 220uF, 25V; Note: Refer to Manufacturer's Data Sheets for other lead formations; DrillSize: Nominal, Rounded To The Nearest 0.1mm; Published: 19-Mar-2004; DatasheetDocument: 30-May-2000; PackageReference: CAPPR3.5-8X11.5; Publisher: Altium Limited; ComponentLink1Description: Manufacturer Link; ComponentLink1URL: http://www.vishay.com/; ComponentLink2Description: Datasheet; ComponentLink2URL: http://www.vishay.com/docs/25007/eks.pdf; Value: 220uF
footprint CAPPR3.5-8X11.5 (Capacitor, Electrolytic, Radial; Body 8 x 11.5 mm (Dia.xH typ); Pin Spacing 3.5 mm (typ))
simulation model CAP (Capacitor)
signal-integrity model EKS00PB322E00
pins: 1, 2
1 alternate drawing of the same symbol

## EKS00PB333C00
designator C?
Aluminum Electrolytic Capacitor, Radial Style with Long Leads: 330uF, 10V; Note: Refer to Manufacturer's Data Sheets for other lead formations; DrillSize: Nominal, Rounded To The Nearest 0.1mm; Published: 19-Mar-2004; DatasheetDocument: 30-May-2000; PackageReference: CAPPR3.5-8X11.5; Publisher: Altium Limited; ComponentLink1Description: Manufacturer Link; ComponentLink1URL: http://www.vishay.com/; ComponentLink2Description: Datasheet; ComponentLink2URL: http://www.vishay.com/docs/25007/eks.pdf; Value: 330uF
footprint CAPPR3.5-8X11.5 (Capacitor, Electrolytic, Radial; Body 8 x 11.5 mm (Dia.xH typ); Pin Spacing 3.5 mm (typ))
simulation model CAP (Capacitor)
signal-integrity model EKS00PB333C00
pins: 1, 2
1 alternate drawing of the same symbol

## EKS00PB333D00
designator C?
Aluminum Electrolytic Capacitor, Radial Style with Long Leads: 330uF, 16V; Note: Refer to Manufacturer's Data Sheets for other lead formations; DrillSize: Nominal, Rounded To The Nearest 0.1mm; Published: 19-Mar-2004; DatasheetDocument: 30-May-2000; PackageReference: CAPPR3.5-8X11.5; Publisher: Altium Limited; ComponentLink1Description: Manufacturer Link; ComponentLink1URL: http://www.vishay.com/; ComponentLink2Description: Datasheet; ComponentLink2URL: http://www.vishay.com/docs/25007/eks.pdf; Value: 330uF
footprint CAPPR3.5-8X11.5 (Capacitor, Electrolytic, Radial; Body 8 x 11.5 mm (Dia.xH typ); Pin Spacing 3.5 mm (typ))
simulation model CAP (Capacitor)
signal-integrity model EKS00PB333D00
pins: 1, 2
1 alternate drawing of the same symbol

## EKS00PB347C00
designator C?
Aluminum Electrolytic Capacitor, Radial Style with Long Leads: 470uF, 10V; Note: Refer to Manufacturer's Data Sheets for other lead formations; DrillSize: Nominal, Rounded To The Nearest 0.1mm; Published: 19-Mar-2004; DatasheetDocument: 30-May-2000; PackageReference: CAPPR3.5-8X11.5; Publisher: Altium Limited; ComponentLink1Description: Manufacturer Link; ComponentLink1URL: http://www.vishay.com/; ComponentLink2Description: Datasheet; ComponentLink2URL: http://www.vishay.com/docs/25007/eks.pdf; Value: 470uF
footprint CAPPR3.5-8X11.5 (Capacitor, Electrolytic, Radial; Body 8 x 11.5 mm (Dia.xH typ); Pin Spacing 3.5 mm (typ))
simulation model CAP (Capacitor)
signal-integrity model EKS00PB347C00
pins: 1, 2
1 alternate drawing of the same symbol

## EKS09AA047H00
designator C?
Aluminum Electrolytic Capacitor, Radial Style with Leads Bent Open, Shortened: 0.47uF, 50V; Note: Refer to Manufacturer's Data Sheets for other lead formations; DrillSize: Nominal, Rounded To The Nearest 0.1mm; Published: 19-Mar-2004; DatasheetDocument: 30-May-2000; PackageReference: CAPPR5-5X11; Publisher: Altium Limited; ComponentLink1Description: Manufacturer Link; ComponentLink1URL: http://www.vishay.com/; ComponentLink2Description: Datasheet; ComponentLink2URL: http://www.vishay.com/docs/25007/eks.pdf; Value: 0.47uF
footprint CAPPR5-5X11 (Capacitor, Electrolytic, Radial; Body 5 x 11 mm (Dia.xH typ); Pin Spacing 5 mm (typ))
simulation model CAP (Capacitor)
signal-integrity model EKS09AA047H00
pins: 1, 2
1 alternate drawing of the same symbol

## EKS09AA047L00
designator C?
Aluminum Electrolytic Capacitor, Radial Style with Leads Bent Open, Shortened: 0.47uF, 100V; Note: Refer to Manufacturer's Data Sheets for other lead formations; DrillSize: Nominal, Rounded To The Nearest 0.1mm; Published: 19-Mar-2004; DatasheetDocument: 30-May-2000; PackageReference: CAPPR5-5X11; Publisher: Altium Limited; ComponentLink1Description: Manufacturer Link; ComponentLink1URL: http://www.vishay.com/; ComponentLink2Description: Datasheet; ComponentLink2URL: http://www.vishay.com/docs/25007/eks.pdf; Value: 0.47uF
footprint CAPPR5-5X11 (Capacitor, Electrolytic, Radial; Body 5 x 11 mm (Dia.xH typ); Pin Spacing 5 mm (typ))
simulation model CAP (Capacitor)
signal-integrity model EKS09AA047L00
pins: 1, 2
1 alternate drawing of the same symbol

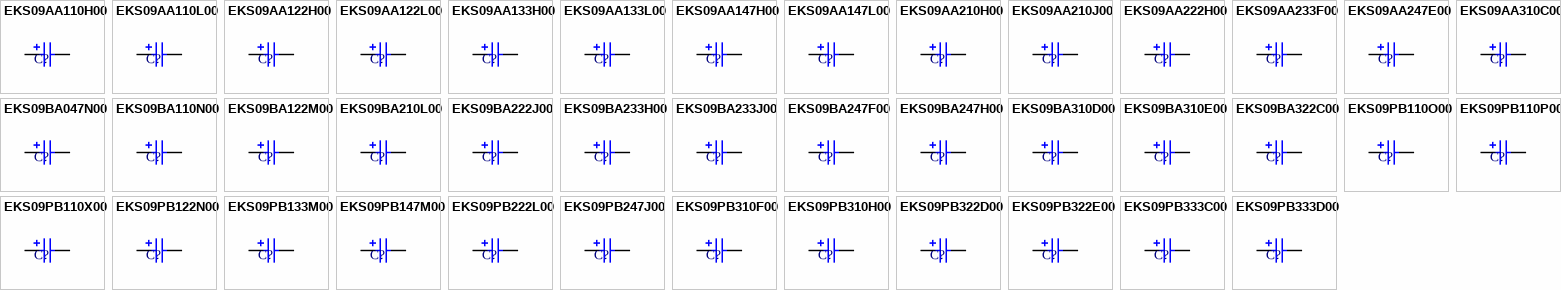
[diagram p30: symbols EKS09AA110H00 to EKS09PB333D00]

## EKS09AA110H00
designator C?
Aluminum Electrolytic Capacitor, Radial Style with Leads Bent Open, Shortened: 1uF, 50V; Note: Refer to Manufacturer's Data Sheets for other lead formations; DrillSize: Nominal, Rounded To The Nearest 0.1mm; Published: 19-Mar-2004; DatasheetDocument: 30-May-2000; PackageReference: CAPPR5-5X11; Publisher: Altium Limited; ComponentLink1Description: Manufacturer Link; ComponentLink1URL: http://www.vishay.com/; ComponentLink2Description: Datasheet; ComponentLink2URL: http://www.vishay.com/docs/25007/eks.pdf; Value: 1uF
footprint CAPPR5-5X11 (Capacitor, Electrolytic, Radial; Body 5 x 11 mm (Dia.xH typ); Pin Spacing 5 mm (typ))
simulation model CAP (Capacitor)
signal-integrity model EKS09AA110H00
pins: 1, 2
1 alternate drawing of the same symbol

## EKS09AA110L00
designator C?
Aluminum Electrolytic Capacitor, Radial Style with Leads Bent Open, Shortened: 1uF, 100V; Note: Refer to Manufacturer's Data Sheets for other lead formations; DrillSize: Nominal, Rounded To The Nearest 0.1mm; Published: 19-Mar-2004; DatasheetDocument: 30-May-2000; PackageReference: CAPPR5-5X11; Publisher: Altium Limited; ComponentLink1Description: Manufacturer Link; ComponentLink1URL: http://www.vishay.com/; ComponentLink2Description: Datasheet; ComponentLink2URL: http://www.vishay.com/docs/25007/eks.pdf; Value: 1uF
footprint CAPPR5-5X11 (Capacitor, Electrolytic, Radial; Body 5 x 11 mm (Dia.xH typ); Pin Spacing 5 mm (typ))
simulation model CAP (Capacitor)
signal-integrity model EKS09AA110L00
pins: 1, 2
1 alternate drawing of the same symbol

## EKS09AA122H00
designator C?
Aluminum Electrolytic Capacitor, Radial Style with Leads Bent Open, Shortened: 2.2uF, 50V; Note: Refer to Manufacturer's Data Sheets for other lead formations; DrillSize: Nominal, Rounded To The Nearest 0.1mm; Published: 19-Mar-2004; DatasheetDocument: 30-May-2000; PackageReference: CAPPR5-5X11; Publisher: Altium Limited; ComponentLink1Description: Manufacturer Link; ComponentLink1URL: http://www.vishay.com/; ComponentLink2Description: Datasheet; ComponentLink2URL: http://www.vishay.com/docs/25007/eks.pdf; Value: 2.2uF
footprint CAPPR5-5X11 (Capacitor, Electrolytic, Radial; Body 5 x 11 mm (Dia.xH typ); Pin Spacing 5 mm (typ))
simulation model CAP (Capacitor)
signal-integrity model EKS09AA122H00
pins: 1, 2
1 alternate drawing of the same symbol

## EKS09AA122L00
designator C?
Aluminum Electrolytic Capacitor, Radial Style with Leads Bent Open, Shortened: 2.2uF, 100V; Note: Refer to Manufacturer's Data Sheets for other lead formations; DrillSize: Nominal, Rounded To The Nearest 0.1mm; Published: 19-Mar-2004; DatasheetDocument: 30-May-2000; PackageReference: CAPPR5-5X11; Publisher: Altium Limited; ComponentLink1Description: Manufacturer Link; ComponentLink1URL: http://www.vishay.com/; ComponentLink2Description: Datasheet; ComponentLink2URL: http://www.vishay.com/docs/25007/eks.pdf; Value: 2.2uF
footprint CAPPR5-5X11 (Capacitor, Electrolytic, Radial; Body 5 x 11 mm (Dia.xH typ); Pin Spacing 5 mm (typ))
simulation model CAP (Capacitor)
signal-integrity model EKS09AA122L00
pins: 1, 2
1 alternate drawing of the same symbol

## EKS09AA133H00
designator C?
Aluminum Electrolytic Capacitor, Radial Style with Leads Bent Open, Shortened: 3.3uF, 50V; Note: Refer to Manufacturer's Data Sheets for other lead formations; DrillSize: Nominal, Rounded To The Nearest 0.1mm; Published: 19-Mar-2004; DatasheetDocument: 30-May-2000; PackageReference: CAPPR5-5X11; Publisher: Altium Limited; ComponentLink1Description: Manufacturer Link; ComponentLink1URL: http://www.vishay.com/; ComponentLink2Description: Datasheet; ComponentLink2URL: http://www.vishay.com/docs/25007/eks.pdf; Value: 3.3uF
footprint CAPPR5-5X11 (Capacitor, Electrolytic, Radial; Body 5 x 11 mm (Dia.xH typ); Pin Spacing 5 mm (typ))
simulation model CAP (Capacitor)
signal-integrity model EKS09AA133H00
pins: 1, 2
1 alternate drawing of the same symbol

## EKS09AA133L00
designator C?
Aluminum Electrolytic Capacitor, Radial Style with Leads Bent Open, Shortened: 3.3uF, 100V; Note: Refer to Manufacturer's Data Sheets for other lead formations; DrillSize: Nominal, Rounded To The Nearest 0.1mm; Published: 19-Mar-2004; DatasheetDocument: 30-May-2000; PackageReference: CAPPR5-5X11; Publisher: Altium Limited; ComponentLink1Description: Manufacturer Link; ComponentLink1URL: http://www.vishay.com/; ComponentLink2Description: Datasheet; ComponentLink2URL: http://www.vishay.com/docs/25007/eks.pdf; Value: 3.3uF
footprint CAPPR5-5X11 (Capacitor, Electrolytic, Radial; Body 5 x 11 mm (Dia.xH typ); Pin Spacing 5 mm (typ))
simulation model CAP (Capacitor)
signal-integrity model EKS09AA133L00
pins: 1, 2
1 alternate drawing of the same symbol